# EAGLE library part IM03GR (library IM03GR)
Electromechanical Relay 5VDC 178Ohm 2A DPDT (( 10mm 7.5mm 5.65mm)) SMD Signal Relay Automotive Check availability <https://pricing.snapeda.com/parts/IM03GR/TE%20Connectivity%20Potter%20%26%20Brumfield%20Relays/view-part?ref=eda>
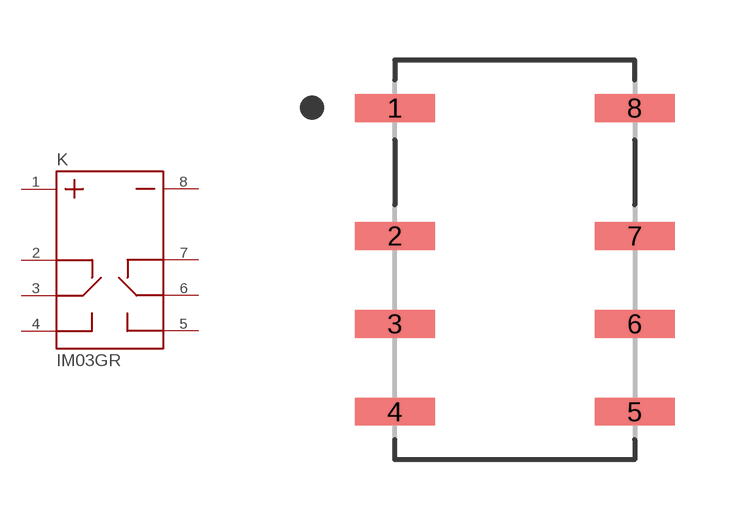
[diagram p0: symbol with the pads of RELAY_IM03GR; footprint RELAY_IM03GR]

Designator prefix K

## IM03GR (AVAILABILITY: In Stock; CHECK_PRICES: https://www.snapeda.com/parts/IM03GR/TE+Connectivity/view-part/?ref=eda; DESCRIPTION: Telecom Relay DPDT (2 Form C) Surface Mount; MF: TE Connectivity Potter & Brumfield Relays; MP: IM03GR; PACKAGE: None; PRICE: None; SNAPEDA_LINK: https://www.snapeda.com/parts/IM03GR/TE+Connectivity/view-part/?ref=snap)  [RELAY_IM03GR]
1  1  pas
2  2  pas
3  3  pas
4  4  pas
5  5  pas
6  6  pas
7  7  pas
8  8  pas

## Footprint RELAY_IM03GR (pad centres in mm)
smd 2 x 0.7: 1 -3,3.8; 2 -3,0.6; 3 -3,-1.6; 4 -3,-3.8; 5 3,-3.8; 6 3,-1.6; 7 3,0.6; 8 3,3.8